# Altium schematic symbol library Клеммники.SchLib: 2 symbols
Pins are listed as number, name and electrical type; pins without a type are passive.

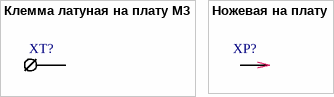
[diagram p0: symbols Клемма латуная на плату М3 to Ножевая на плату]

## Клемма латуная на плату М3
designator XT?  (value not drawn)
pins: 1

## Ножевая на плату
designator XP?, comment **  (value not drawn)
Ножевая на плату; Rem: *; Package: *; Value: *; Tolerance: *; Power/Voltage: *; TKE: *; ManufacturerPartNumber: *; Manufacturer: *; Quantity: *; Примечание: *
footprint Клемма ножевая на плату
pins: 1